# EAGLE library part DRV8825 (library AREA)
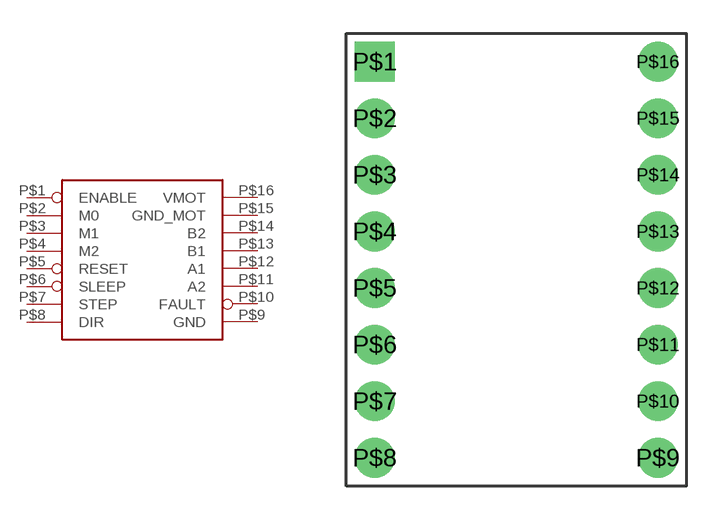
[diagram p1: symbol with the pads of DRV8825; footprint DRV8825]

Designator prefix -

## DRV8825  [DRV8825]
P$1  ENABLE
P$2  M0
P$3  M1
P$4  M2
P$5  RESET
P$6  SLEEP
P$7  STEP
P$8  DIR
P$9  GND
P$10  FAULT
P$11  A2
P$12  A1
P$13  B1
P$14  B2
P$15  GND_MOT
P$16  VMOT

## Footprint DRV8825 (pad centres in mm)
drill 0.8 pad 1.778 square: P$1 0,0
drill 0.8 pad 1.778: P$2 0,-2.54; P$3 0,-5.08; P$4 0,-7.62; P$5 0,-10.16; P$6 0,-12.7; P$7 0,-15.24; P$8 0,-17.78; P$9 12.7,-17.78; P$10 12.7,-15.24; P$11 12.7,-12.7; P$12 12.7,-10.16; P$13 12.7,-7.62; P$14 12.7,-5.08; P$15 12.7,-2.54; P$16 12.7,0